# Altium footprint library SPWM_PS_V1.00.PcbLib: 24 footprints (part 1 of 2)
Each footprint in its own frame and in the unit in brackets; x right, y up, seen from the top. Pads: shape width x height; smd on the part's side, far side on the other; paste and mask are expansions set on the pad; w line width, h text height; cw(c..) or ccw(c..) is an arc to the next point about the centre after c.
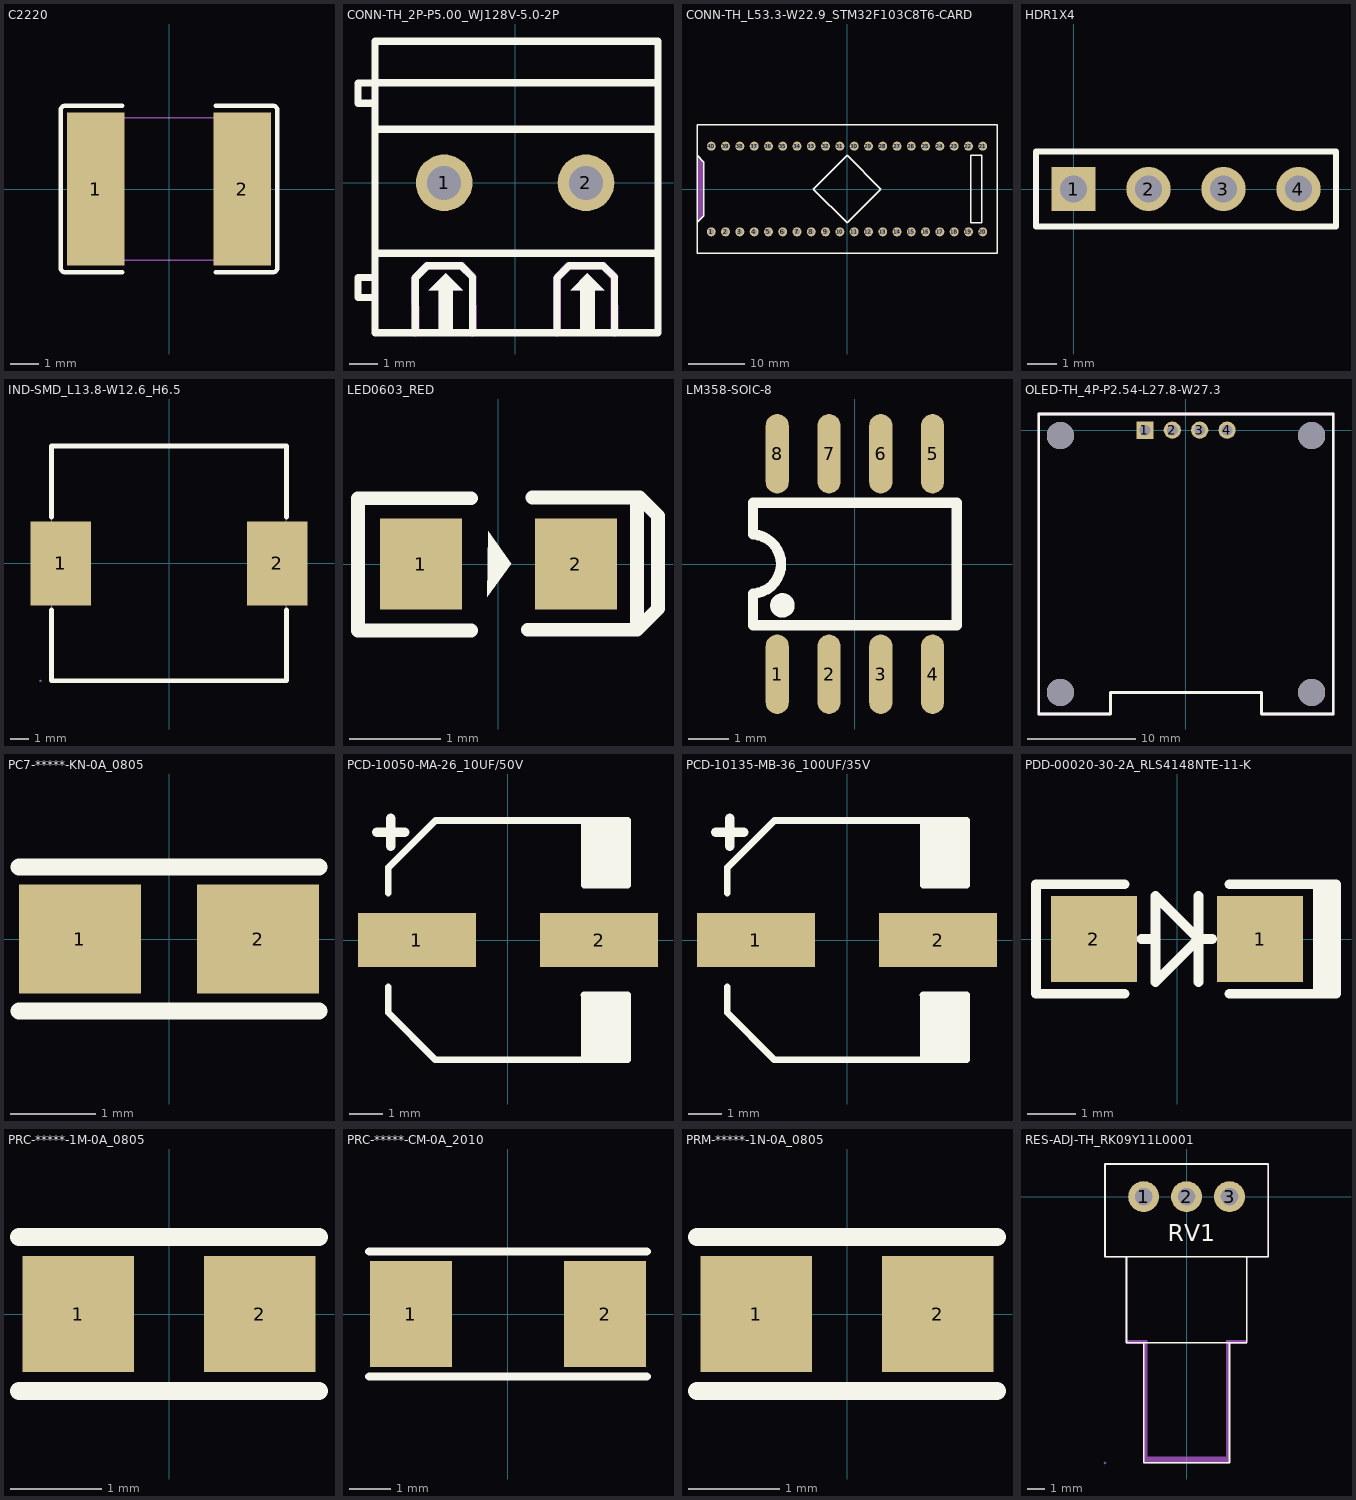
[diagram p0: the footprints below, top view; thin cyan lines are the x and y axes]

## C2220 [mm]
pads (2):
  rect 2.01x5.4 smd: 1(-2.58,0) 2(2.58,0)
Top Overlay:
  lines w0.152: -1.651,-2.929 -3.661,-2.929 cw(c-3.661,-2.776) -3.814,-2.776 -3.814,2.776 cw(c-3.661,2.776) -3.661,2.929 -1.651,2.929 ; 1.651,-2.929 3.661,-2.929 ccw(c3.661,-2.776) 3.814,-2.776 3.814,2.776 ccw(c3.661,2.776) 3.661,2.929 1.651,2.929
Top Paste:
  region: 1.575,-2.6 1.575,-1.018 1.675,-0.918 2.158,-0.918 2.258,-0.818 2.258,0.818 2.158,0.918 1.675,0.918 1.575,1.018 1.575,2.6 1.675,2.7 3.485,2.7 3.585,2.6 3.585,-2.6 3.485,-2.7 1.675,-2.7
  region: -1.575,-2.6 -1.575,-1.018 -1.675,-0.918 -2.158,-0.918 -2.258,-0.818 -2.258,0.818 -2.158,0.918 -1.675,0.918 -1.575,1.018 -1.575,2.6 -1.675,2.7 -3.485,2.7 -3.585,2.6 -3.585,-2.6 -3.485,-2.7 -1.675,-2.7
Mechanical 15:
  region: -2.785,-2.5 -2.804,-2.454 -2.85,-2.435 -2.896,-2.454 -2.915,-2.5 -2.896,-2.546 -2.85,-2.565 -2.804,-2.546
  region: -2.85,-2.5 -2.85,2.5 -2,2.5 -2,-2.5
  region: 2.85,-2.5 2.85,2.5 2,2.5 2,-2.5
  lines w0.051: -2.85,-2.5 -2.85,2.5 2.85,2.5 2.85,-2.5 -2.85,-2.5

## CONN-TH_2P-P5.00_WJ128V-5.0-2P [mm]
pads (2):
  round 2 hole 1.2: 1(-2.504,0) 2(2.504,0)
Top Overlay:
  region: 1.959,-3.8 3.159,-3.8 2.559,-3.2
  region: 2.309,-5.4 2.309,-3.8 2.809,-3.8 2.809,-5.4
  region: -2.7,-5.4 -2.7,-3.8 -2.2,-3.8 -2.2,-5.4
  region: -3.05,-3.8 -1.85,-3.8 -2.45,-3.2
  lines w0.254: -4.95,-5.3 -4.95,5 5.05,5 5.05,-5.3 -4.94,-5.3 ; -4.95,-4.053 -5.55,-4.053 -5.55,-3.342 -4.95,-3.342 ; -4.95,-2.489 5.05,-2.489 ; -4.95,1.891 5.05,1.891 ; -4.95,2.81 -5.55,2.81 -5.55,3.521 -4.95,3.521 ; -4.95,3.536 5.05,3.536 ; -3.529,-5.3 -3.529,-3.359 -3.1,-2.93 -1.9,-2.93 -1.5,-3.33 -1.5,-5.3 ; 1.48,-5.3 1.48,-3.359 1.909,-2.93 3.109,-2.93 3.509,-3.33 3.509,-5.3
Mechanical 15:
  region: 1.959,-3.8 3.159,-3.8 2.559,-3.2
  region: 2.309,-5.4 2.309,-3.8 2.809,-3.8 2.809,-5.4
  region: -3.05,-3.8 -1.85,-3.8 -2.45,-3.2
  region: -2.7,-5.4 -2.7,-3.8 -2.2,-3.8 -2.2,-5.4
  region: 1.353,-5.3 1.343,-3.359 1.383,-3.261 1.391,-3.269 1.812,-2.833 1.909,-2.793 1.909,-2.803 3.109,-2.793 3.206,-2.833 3.199,-2.84 3.606,-3.233 3.646,-3.33 3.636,-3.33 3.646,-5.3 3.606,-5.397 3.509,-5.438 3.412,-5.397 3.371,-5.3 3.382,-5.3 3.382,-3.383 3.056,-3.057 1.962,-3.057 1.607,-3.411 1.618,-5.3 1.578,-5.397 1.48,-5.438 1.383,-5.397 1.343,-5.3
  region: -3.656,-5.3 -3.666,-3.359 -3.626,-3.261 -3.618,-3.269 -3.197,-2.833 -3.1,-2.793 -3.1,-2.803 -1.9,-2.793 -1.803,-2.833 -1.81,-2.84 -1.403,-3.233 -1.363,-3.33 -1.373,-3.33 -1.363,-5.3 -1.403,-5.397 -1.5,-5.438 -1.597,-5.397 -1.637,-5.3 -1.627,-5.3 -1.627,-3.383 -1.953,-3.057 -3.047,-3.057 -3.402,-3.411 -3.391,-5.3 -3.431,-5.397 -3.529,-5.438 -3.626,-5.397 -3.666,-5.3

## CONN-TH_L53.3-W22.9_STM32F103C8T6-CARD [mm]
pads (40):
  round 1.6 hole 1: 1(-24.13,-7.62) 2(-21.59,-7.62) 3(-19.05,-7.62) 4(-16.51,-7.62) 5(-13.97,-7.62) 6(-11.43,-7.62) 7(-8.89,-7.62) 8(-6.35,-7.62) 9(-3.81,-7.62) 10(-1.27,-7.62) 11(1.27,-7.62) 12(3.81,-7.62) 13(6.35,-7.62) 14(8.89,-7.62) 15(11.43,-7.62) 16(13.97,-7.62) 17(16.51,-7.62) 18(19.05,-7.62) 19(21.59,-7.62) 20(24.13,-7.62) 21(24.13,7.62) 22(21.59,7.62) 23(19.05,7.62) 24(16.51,7.62) 25(13.97,7.62) 26(11.43,7.62) 27(8.89,7.62) 28(6.35,7.62) 29(3.81,7.62) 30(1.27,7.62) 31(-1.27,7.62) 32(-3.81,7.62) 33(-6.35,7.62) 34(-8.89,7.62) 35(-11.43,7.62) 36(-13.97,7.62) 37(-16.51,7.62) 38(-19.05,7.62) 39(-21.59,7.62) 40(-24.13,7.62)
Top Overlay:
  lines w0.254: -26.67,-5.945 -25.5,-4.775 -25.5,4 -25.5,4.798 -26.67,5.968 ; -26.67,-11.43 26.67,-11.43 26.67,11.43 -26.67,11.43 -26.67,-11.43 ; -6,0 0,-6 6,0 0,6 -6,0 ; 22,-6 22,6 24,6 24,-6 22,-6
Mechanical 15:
  region: -26.67,5.968 -25.5,4.798 -25.5,-4.775 -26.67,-5.945

## HDR1X4 [mm] "Connector; Header; 4 Position"
pads (4):
  rect 1.5x1.5 hole 0.9: 1(0,0)
  round 1.5 hole 0.9: 2(2.54,0) 3(5.08,0) 4(7.62,0)
Top Overlay:
  lines w0.2: -1.27,-1.27 -1.27,1.27 8.89,1.27 8.89,-1.27 -1.27,-1.27

## IND-SMD_L13.8-W12.6_H6.5 [mm]
pads (2):
  rect 3.25x4.5 smd: 1(-5.8,0) 2(5.8,0)
Top Overlay:
  lines w0.254: -6.3,-2.481 -6.3,-6.3 6.3,-6.3 6.3,-2.481 ; -6.3,2.481 -6.3,6.3 6.3,6.3 6.3,2.481
Mechanical 15:
  region: 6.9,1.75 6.9,-1.75 4.4,-1.75 4.4,1.75
  region: -4.4,1.75 -4.4,-1.75 -6.9,-1.75 -6.9,1.75
  region: -6.836,-6.3 -6.854,-6.257 -6.9,-6.238 -6.946,-6.257 -6.964,-6.3 -6.946,-6.343 -6.9,-6.362 -6.854,-6.343 -6.836,-6.3
  lines w0.051: -6.3,-6.3 -6.3,6.3 6.3,6.3 6.3,-6.3 -6.3,-6.3

## LED0603_RED [mm]
pads (2):
  rect 0.9x1 smd: 1(-0.85,0) 2(0.85,0)
Top Overlay:
  region: -0.11,0.36 -0.12,-0.36 0.14,0
  lines w0.15: -0.3,-0.73 -1.54,-0.73 -1.54,0.72 -0.3,0.72 ; 0.32,-0.72 1.52,-0.72 ; 0.37,0.73 1.52,0.73 ; 1.52,-0.72 1.72,-0.52 1.75,-0.49 1.75,0.53 1.55,0.73 1.52,0.73 ; 1.52,-0.72 1.52,0.73

## LM358-SOIC-8 [mil]
height 43.31
pads (8):
  oval 22.38x76.78 smd: 1(-75,-106.5) 2(-25,-106.5) 3(25,-106.5) 4(75,-106.5) 5(75,106.5) 6(25,106.5) 7(-25,106.5) 8(-75,106.5)
Top Overlay:
  circle w11.81: c-70,-40 r5.91
  lines w10: -98.43,-28.61 ccw(c-99.99,0) -98.23,28.59 ; -98.42,-28.61 -98.42,-59.05 98.42,-59.05 98.42,59.05 -98.42,59.05 -98.42,28.59

## OLED-TH_4P-P2.54-L27.8-W27.3 [mm]
pads (8):
  rect 1.6x1.6 hole 1: 1(-3.81,0)
  round 1.6 hole 1: 2(-1.27,0) 3(1.27,0) 4(3.81,0)
  round 2.5 hole 2.5 unplated: ""(-11.65,-24.3) ""(-11.65,-0.5) ""(11.65,-24.3) ""(11.65,-0.5)
Top Overlay:
  lines w0.254: -13.65,-26.3 -7,-26.3 -7,-24.3 7,-24.3 7,-26.3 13.65,-26.3 13.65,1.5 -13.65,1.5 -13.65,-26.3
Mechanical 15:
  circle w1.25: c11.65,-0.5 r0.625
  circle w1.25: c11.65,-24.3 r0.625
  circle w1.25: c-11.65,-24.3 r0.625
  circle w1.25: c-11.65,-0.5 r0.625
  lines w0.254: -13.65,-26.3 -7,-26.3 -7,-24.3 7,-24.3 7,-26.3 13.65,-26.3 13.65,1.5 -13.65,1.5 -13.65,-26.3

## PC7-*****-KN-0A_0805 [mm] "0805"
pads (2):
  rect 1.424x1.27 smd: 1(-1.04,0) 2(1.04,0)
Top Overlay:
  lines w0.2: -1.749,-0.842 1.749,-0.842 ; -1.749,0.842 1.749,0.842

## PCD-10050-MA-26_10UF/50V [mm] "6.3D"
height 5.4
pads (2):
  rect 3.5x1.6 smd: 1(-2.7,0) 2(2.7,0)
Top Overlay:
  region: 3.539,-1.63 2.258,-1.63 2.258,-3.502 3.539,-3.502
  rectangle: 2.272,1.63 3.552,3.502
  lines w0.2: -3.55,-1.391 -3.55,-2.153 -2.153,-3.55 3.55,-3.55 3.55,-1.63 ; -3.55,1.391 -3.55,2.153 -2.153,3.55 3.55,3.55 3.55,1.63 ; 2.258,-1.63 3.539,-1.63 ; 2.26,-3.55 2.26,-1.63 ; 2.26,3.502 2.27,3.55 ; 2.272,3.55 2.272,1.63 3.552,1.63 ; 3.54,-3.55 3.55,-3.502
  lines w0.28: -3.888,3.199 -3.058,3.199 ; -3.478,2.789 -3.478,3.619

## PCD-10135-MB-36_100UF/35V [mm] "6.3D"
pads (2):
  rect 3.5x1.6 smd: 1(-2.7,0) 2(2.7,0)
Top Overlay:
  region: 3.539,-1.63 2.258,-1.63 2.258,-3.502 3.539,-3.502
  rectangle: 2.271,1.63 3.552,3.502
  lines w0.2: -3.55,-1.391 -3.55,-2.153 -2.153,-3.55 3.55,-3.55 3.55,-1.63 ; -3.55,1.391 -3.55,2.153 -2.153,3.55 3.55,3.55 3.55,1.63 ; 2.258,-1.63 3.539,-1.63 ; 2.26,-3.55 2.26,-1.63 ; 2.26,3.502 2.27,3.55 ; 2.271,3.55 2.271,1.63 3.552,1.63 ; 3.54,-3.55 3.55,-3.502
  lines w0.28: -3.888,3.199 -3.058,3.199 ; -3.478,2.789 -3.478,3.619

## PDD-00020-30-2A_RLS4148NTE-11-K [mil]
height 59.06
pads (2):
  rect 70x70 smd: 1(67.5,0) 2(-67.5,0)
Top Overlay:
  lines w7.87: -42.5,-44.49 -114.55,-44.49 -114.55,44.49 -42.5,44.49 ; -28.84,-0.01 -17.5,0 ; 17.5,-35 17.5,35 ; 28.64,-0.01 17.5,0 ; 42.5,-44.49 129.11,-44.49 129.11,44.49 42.5,44.49 ; 114.55,-44.49 114.55,44.49 ; 121.63,-44.49 121.63,44.49 ; 17.5,0 -17.5,35 -17.5,-35 17.5,0

## PRC-*****-1M-0A_0805 [mm] "0805"
height 0.5
pads (2):
  rect 1.224x1.27 smd: 1(-0.993,0) 2(0.993,0)
Top Overlay:
  lines w0.2: -1.643,-0.842 1.643,-0.842 ; -1.643,0.842 1.643,0.842

## PRC-*****-CM-0A_2010 [mm] "2010"
height 0.5
pads (2):
  rect 1.959x2.54 smd: 1(-2.326,0) 2(2.326,0)
Top Overlay:
  lines w0.2: -3.326,-1.5 3.326,-1.5 ; -3.326,1.5 3.326,1.5

## PRM-*****-1N-0A_0805 [mm] "0805"
height 0.3
pads (2):
  rect 1.224x1.27 smd: 1(-0.993,0) 2(0.993,0)
Top Overlay:
  lines w0.2: -1.643,-0.842 1.643,-0.842 ; -1.643,0.842 1.643,0.842

## RES-ADJ-TH_RK09Y11L0001 [mm]
pads (3):
  round 1.8 hole 1: 1(-2.5,0) 2(0,0) 3(2.5,0)
Top Overlay:
  lines w0.1: -4.75,-3.5 -4.75,1.9 4.75,1.9 4.75,-3.5 -4.75,-3.5 ; -3.5,-8.5 -3.5,-3.5 3.5,-3.5 3.5,-8.5 -3.5,-8.5 ; -2.5,-15.5 -2.5,-8.5 2.5,-8.5 2.5,-15.5 -2.5,-15.5
  text "RV1" at -1.1,-2.6 h1
Mechanical 6:
  region: 3.5,-8.55 2.5,-8.55 2.5,-15.45 -2.5,-15.45 -2.5,-8.55 -3.5,-8.55 -3.5,-8.35 -2.3,-8.35 -2.3,-15.15 2.3,-15.15 2.3,-8.35 3.5,-8.35
Mechanical 15:
  region: -4.685,-15.5 -4.704,-15.454 -4.75,-15.435 -4.796,-15.454 -4.815,-15.5 -4.796,-15.546 -4.75,-15.565 -4.704,-15.546 -4.685,-15.5
  region: -0.45,-0.15 -0.45,0.15 0.45,0.15 0.45,-0.15
  region: -2.95,-0.15 -2.95,0.15 -2.05,0.15 -2.05,-0.15
  region: 2.05,-0.15 2.05,0.15 2.95,0.15 2.95,-0.15
  lines w0.051: -4.75,-3.5 -3.5,-3.5 -3.5,-8.5 -2.5,-8.5 -2.5,-15.5 2.5,-15.5 2.5,-8.5 3.5,-8.5 3.5,-3.5 4.75,-3.5 4.75,1.9 -4.75,1.9 -4.75,1.85 -4.75,-3.45 -4.75,-3.5